# EAGLE library part LTC1624 (library omcSupplyRegulator)
LTC1624 - 200mA Buck-Boost Synchronous DC/DC Converters N-Channel MOSFET Drive Implements Boost, Step-Down, SEPIC and Inverting Regulators Wide VIN Range: 3.5V to 36V Operation Wide VOUT Range: 1.19V to 30V in Step-Down Configuration ±1% 1.19V Reference Low Dropout Operation: 95% Duty Cycle 200kHz Fixed Frequency Low Standby Current Very High Efficiency Remote Output Voltage Sense Logic-Controlled Micropower Shutdown LInternal Diode for Bootstrapped Gate Drive Current Mode Operation for Excellent Line and Load Transient Response Linear Technolgy Datasheet <http://cds.linear.com/docs/en/datasheet/1624f.pdf> Reichelt Datasheet <http://cdn-reichelt.de/documents/datenblatt/A200/LTC1624-DB.pdf> Distributor Reichelt: LTC 1624 CS8 Conrad: 157668 - 62 Digi-Key: LTC1624CS8#PBF-ND
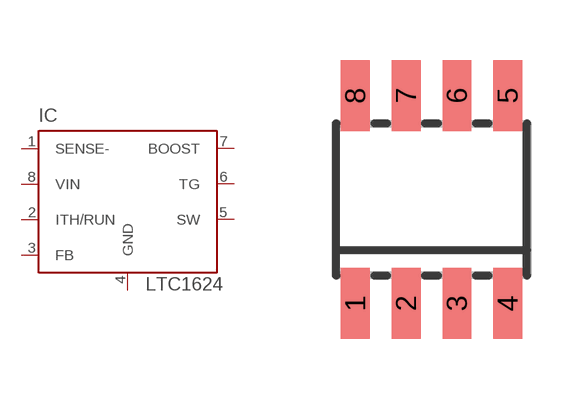
[diagram p0: symbol with the pads of SOIC8; footprint SOIC8]

Designator prefix IC

## LTC1624 (DIST#CONRAD#: 157668 - 62; DIST#DIGIKEY#: LTC1624CS8#PBF-ND; DIST#REICHELT#: LTC 1624 CS8; VALUE: LTC1624; VENDOR#: Linear Technology#LTC1624CS)  [SOIC8]
1  SENSE-  pas
2  ITH/RUN  pas
3  FB  pas
4  GND  pwr
5  SW  pas
6  TG  pas
7  BOOST  pas
8  VIN  pas

## Footprint SOIC8 (pad centres in mm)
SOIC8 SMD 5mm×6.2mm Wikipedia <https://en.wikipedia.org/wiki/Small_Outline_Integrated_Circuit>
smd 0.72 x 1.78: 1 -1.905,-2.6; 2 -0.635,-2.6; 3 0.635,-2.6; 4 1.905,-2.6; 5 1.905,2.6; 6 0.635,2.6; 7 -0.635,2.6; 8 -1.905,2.6